# Altium footprint library IC-SMD.PCBLIB: 298 footprints (part 1 of 19)
Each footprint in its own frame and in the unit in brackets; x right, y up, seen from the top. Pads: shape width x height; smd on the part's side, far side on the other; paste and mask are expansions set on the pad; w line width, h text height; cw(c..) or ccw(c..) is an arc to the next point about the centre after c.
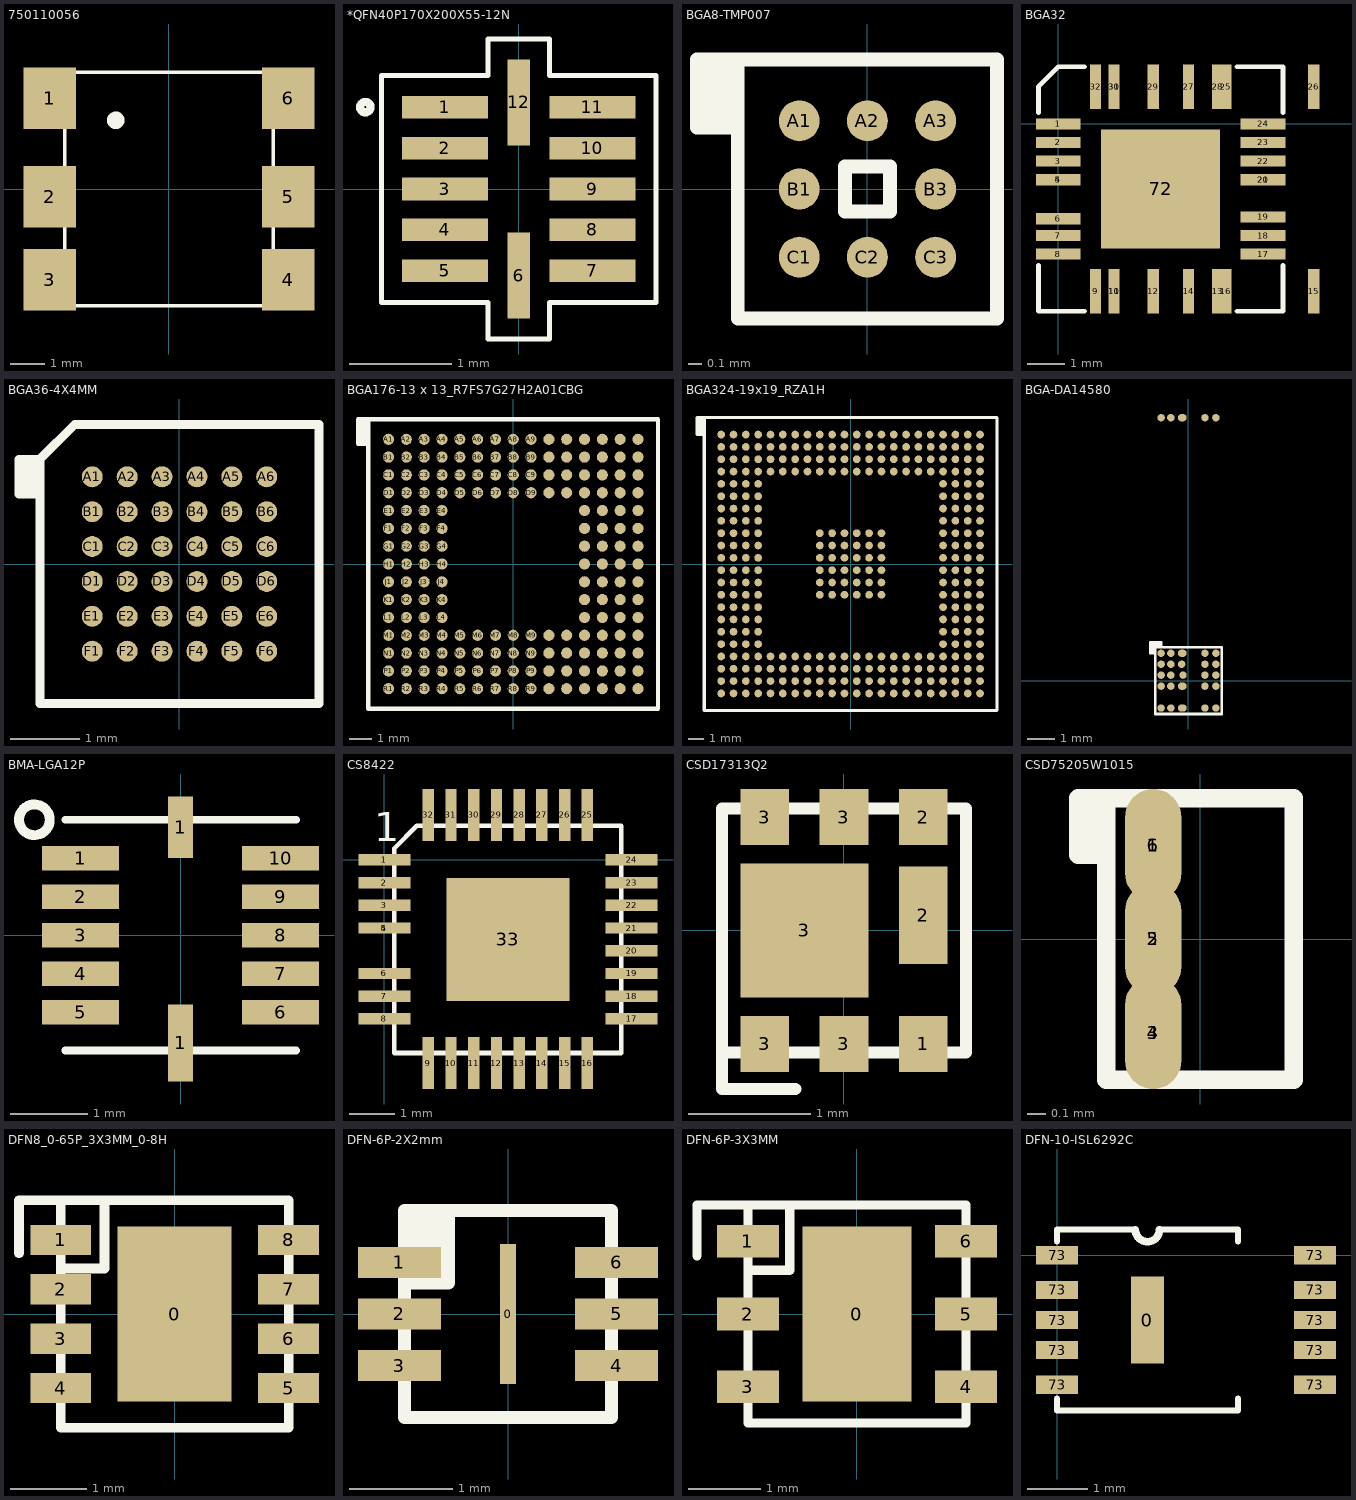
[diagram p0: the footprints below, top view; thin cyan lines are the x and y axes]

## 750110056 [mm] "750110056"
pads (6):
  rect 1.52x1.77 smd: 1(-3.43,2.615) 2(-3.43,-0.225) 3(-3.43,-2.615) 4(3.43,-2.615) 5(3.43,-0.225) 6(3.43,2.615)
TopOverlay:
  circle w0.3: c-1.53,1.976 r0.1
  lines w0.1: -3,-3.365 -3,3.365 3,3.365 3,-3.365 -3,-3.365

## *QFN40P170X200X55-12N [mm] "*QFN40P170X200X55-12N"
pads (12):
  rect 0.84x0.22 smd: 1(-0.72,0.8) 2(-0.72,0.4) 3(-0.72,0) 4(-0.72,-0.4) 5(-0.72,-0.8) 7(0.72,-0.8) 8(0.72,-0.4) 9(0.72,0) 10(0.72,0.4) 11(0.72,0.8)
  rect 0.22x0.84 smd: 6(0,-0.845) 12(0,0.845)
TopOverlay:
  circle w0.08: c-1.499,0.8 r0.051
  lines w0.05: -1.34,-1.11 -0.3,-1.11 -0.3,-1.465 0.3,-1.465 0.3,-1.11 1.34,-1.11 1.34,1.11 0.3,1.11 0.3,1.465 -0.3,1.465 -0.3,1.11 -1.34,1.11 -1.34,-1.11

## BGA8-TMP007 [mm] "BGA8-TMP007"
pads (8):
  round 0.3 smd: A1(-0.5,0.5) A2(0,0.5) A3(0.5,0.5) B1(-0.5,0) B3(0.5,0) C1(-0.5,-0.5) C2(0,-0.5) C3(0.5,-0.5)
TopOverlay:
  rectangle: -1.25,0.45 -0.95,0.95
  lines w0.1: -0.95,0.45 -1.25,0.45 -1.25,0.95 -0.95,0.95 ; -0.95,0.95 0.95,0.95 0.95,-0.95 -0.95,-0.95 -0.95,0.95 ; -0.165,-0.165 0.165,-0.165 0.165,0.165 -0.165,0.165 -0.165,-0.165

## BGA32 [mm]
pads (33):
  rect 1.2x0.3 smd: 1(0,0) 2(0,-0.5) 3(0,-1) 4(0,-1.5) 5(0,-1.5) 6(0,-2.55) 7(0,-3) 8(0,-3.5) 17(5.5,-3.5) 18(5.5,-3) 19(5.5,-2.5) 20(5.5,-1.5) 21(5.5,-1.5) 22(5.5,-1) 23(5.5,-0.5) 24(5.5,0)
  rect 0.3x1.2 smd: 9(1,-4.5) 10(1.5,-4.5) 11(1.5,-4.5) 12(2.55,-4.5) 13(4.28,-4.5) 14(3.5,-4.5) 15(6.86,-4.5) 16(4.5,-4.5) 25(4.5,1) 26(6.86,1) 27(3.5,1) 28(4.28,1) 29(2.55,1) 30(1.5,1) 31(1.5,1) 32(1,1)
  rect 3.2x3.2 smd: 72(2.75,-1.75)
TopOverlay:
  lines w0.128: -0.536,-3.8 -0.536,-5.036 0.7,-5.036 ; -0.536,0.3 -0.536,1 0,1.536 0.7,1.536 ; 4.8,-5.036 6.036,-5.036 6.036,-3.8 ; 4.8,1.536 6.036,1.536 6.036,0.3

## BGA36-4X4MM [mm] "BGA36-4X4MM"
pads (36):
  round 0.3 smd: A1(-1.25,1.25) A2(-0.75,1.25) A3(-0.25,1.25) A4(0.25,1.25) A5(0.75,1.25) A6(1.25,1.25) B1(-1.25,0.75) B2(-0.75,0.75) B3(-0.25,0.75) B4(0.25,0.75) B5(0.75,0.75) B6(1.25,0.75) C1(-1.25,0.25) C2(-0.75,0.25) C3(-0.25,0.25) C4(0.25,0.25) C5(0.75,0.25) C6(1.25,0.25) D1(-1.25,-0.25) D2(-0.75,-0.25) D3(-0.25,-0.25) D4(0.25,-0.25) D5(0.75,-0.25) D6(1.25,-0.25) E1(-1.25,-0.75) E2(-0.75,-0.75) E3(-0.25,-0.75) E4(0.25,-0.75) E5(0.75,-0.75) E6(1.25,-0.75) F1(-1.25,-1.25) F2(-0.75,-1.25) F3(-0.25,-1.25) F4(0.25,-1.25) F5(0.75,-1.25) F6(1.25,-1.25)
TopOverlay:
  rectangle: -2.3,1 -2,1.5
  lines w0.127: -2,1 -2.3,1 -2.3,1.5 -2,1.5 ; -2,1.5 -2,-2 2,-2 2,2 -1.5,2 -2,1.5

## BGA176-13 x 13_R7FS7G27H2A01CBG [mm] "GA176-13 x 13_R7FS7G27H2A01CBG"
pads (176):
  round 0.5 smd mask+0.05: A1(-5.6,5.6) A2(-4.8,5.6) A3(-4,5.6) A4(-3.2,5.6) A5(-2.4,5.6) A6(-1.6,5.6) A7(-0.8,5.6) A8(0,5.6) A9(0.8,5.6) A10(1.6,5.6) A11(2.4,5.6) A12(3.2,5.6) A13(4,5.6) A14(4.8,5.6) A15(5.6,5.6) B1(-5.6,4.8) B2(-4.8,4.8) B3(-4,4.8) B4(-3.2,4.8) B5(-2.4,4.8) B6(-1.6,4.8) B7(-0.8,4.8) B8(0,4.8) B9(0.8,4.8) B10(1.6,4.8) B11(2.4,4.8) B12(3.2,4.8) B13(4,4.8) B14(4.8,4.8) B15(5.6,4.8) C1(-5.6,4) C2(-4.8,4) C3(-4,4) C4(-3.2,4) C5(-2.4,4) C6(-1.6,4) C7(-0.8,4) C8(0,4) C9(0.8,4) C10(1.6,4) C11(2.4,4) C12(3.2,4) C13(4,4) C14(4.8,4) C15(5.6,4) D1(-5.6,3.2) D2(-4.8,3.2) D3(-4,3.2) D4(-3.2,3.2) D5(-2.4,3.2) D6(-1.6,3.2) D7(-0.8,3.2) D8(0,3.2) D9(0.8,3.2) D10(1.6,3.2) D11(2.4,3.2) D12(3.2,3.2) D13(4,3.2) D14(4.8,3.2) D15(5.6,3.2) E1(-5.6,2.4) E2(-4.8,2.4) E3(-4,2.4) E4(-3.2,2.4) E12(3.2,2.4) E13(4,2.4) E14(4.8,2.4) E15(5.6,2.4) F1(-5.6,1.6) F2(-4.8,1.6) F3(-4,1.6) F4(-3.2,1.6) F12(3.2,1.6) F13(4,1.6) F14(4.8,1.6) F15(5.6,1.6) G1(-5.6,0.8) G2(-4.8,0.8) G3(-4,0.8) G4(-3.2,0.8) G12(3.2,0.8) G13(4,0.8) G14(4.8,0.8) G15(5.6,0.8) H1(-5.6,0) H2(-4.8,0) H3(-4,0) H4(-3.2,0) H12(3.2,0) H13(4,0) H14(4.8,0) H15(5.6,0) J1(-5.6,-0.8) J2(-4.8,-0.8) J3(-4,-0.8) J4(-3.2,-0.8) J12(3.2,-0.8) J13(4,-0.8) J14(4.8,-0.8) J15(5.6,-0.8) K1(-5.6,-1.6) K2(-4.8,-1.6) K3(-4,-1.6) K4(-3.2,-1.6) K12(3.2,-1.6) K13(4,-1.6) K14(4.8,-1.6) K15(5.6,-1.6) L1(-5.6,-2.4) L2(-4.8,-2.4) L3(-4,-2.4) L4(-3.2,-2.4) L12(3.2,-2.4) L13(4,-2.4) L14(4.8,-2.4) L15(5.6,-2.4) M1(-5.6,-3.2) M2(-4.8,-3.2) M3(-4,-3.2) M4(-3.2,-3.2) M5(-2.4,-3.2) M6(-1.6,-3.2) M7(-0.8,-3.2) M8(0,-3.2) M9(0.8,-3.2) M10(1.6,-3.2) M11(2.4,-3.2) M12(3.2,-3.2) M13(4,-3.2) M14(4.8,-3.2) M15(5.6,-3.2) N1(-5.6,-4) N2(-4.8,-4) N3(-4,-4) N4(-3.2,-4) N5(-2.4,-4) N6(-1.6,-4) N7(-0.8,-4) N8(0,-4) N9(0.8,-4) N10(1.6,-4) N11(2.4,-4) N12(3.2,-4) N13(4,-4) N14(4.8,-4) N15(5.6,-4) P1(-5.6,-4.8) P2(-4.8,-4.8) P3(-4,-4.8) P4(-3.2,-4.8) P5(-2.4,-4.8) P6(-1.6,-4.8) P7(-0.8,-4.8) P8(0,-4.8) P9(0.8,-4.8) P10(1.6,-4.8) P11(2.4,-4.8) P12(3.2,-4.8) P13(4,-4.8) P14(4.8,-4.8) P15(5.6,-4.8) R1(-5.6,-5.6) R2(-4.8,-5.6) R3(-4,-5.6) R4(-3.2,-5.6) R5(-2.4,-5.6) R6(-1.6,-5.6) R7(-0.8,-5.6) R8(0,-5.6) R9(0.8,-5.6) R10(1.6,-5.6) R11(2.4,-5.6) R12(3.2,-5.6) R13(4,-5.6) R14(4.8,-5.6) R15(5.6,-5.6)
TopOverlay:
  rectangle: -6.8,5.4 -6.5,6.5
  rectangle: -6.97,5.4 -6.67,6.5
  lines w0.2: -6.67,5.4 -6.97,5.4 -6.97,6.5 -6.67,6.5 ; -6.5,5.4 -6.8,5.4 -6.8,6.5 -6.5,6.5 ; -6.5,6.5 -6.5,-6.5 6.5,-6.5 6.5,6.5 -6.5,6.5

## BGA324-19x19_RZA1H [mm] "BGA324-19x19_RZA1H"
pads (324):
  round 0.5 smd mask+0.05: A1(-8.4,8.4) A2(-7.6,8.4) A3(-6.8,8.4) A4(-6,8.4) A5(-5.2,8.4) A6(-4.4,8.4) A7(-3.6,8.4) A8(-2.8,8.4) A9(-2,8.4) A10(-1.2,8.4) A11(-0.4,8.4) A12(0.4,8.4) A13(1.2,8.4) A14(2,8.4) A15(2.8,8.4) A16(3.6,8.4) A17(4.4,8.4) A18(5.2,8.4) A19(6,8.4) A20(6.8,8.4) A21(7.6,8.4) A22(8.4,8.4) AA1(-8.4,-7.6) AA2(-7.6,-7.6) AA3(-6.8,-7.6) AA4(-6,-7.6) AA5(-5.2,-7.6) AA6(-4.4,-7.6) AA7(-3.6,-7.6) AA8(-2.8,-7.6) AA9(-2,-7.6) AA10(-1.2,-7.6) AA11(-0.4,-7.6) AA12(0.4,-7.6) AA13(1.2,-7.6) AA14(2,-7.6) AA15(2.8,-7.6) AA16(3.6,-7.6) AA17(4.4,-7.6) AA18(5.2,-7.6) AA19(6,-7.6) AA20(6.8,-7.6) AA21(7.6,-7.6) AA22(8.4,-7.6) AB1(-8.4,-8.4) AB2(-7.6,-8.4) AB3(-6.8,-8.4) AB4(-6,-8.4) AB5(-5.2,-8.4) AB6(-4.4,-8.4) AB7(-3.6,-8.4) AB8(-2.8,-8.4) AB9(-2,-8.4) AB10(-1.2,-8.4) AB11(-0.4,-8.4) AB12(0.4,-8.4) AB13(1.2,-8.4) AB14(2,-8.4) AB15(2.8,-8.4) AB16(3.6,-8.4) AB17(4.4,-8.4) AB18(5.2,-8.4) AB19(6,-8.4) AB20(6.8,-8.4) AB21(7.6,-8.4) AB22(8.4,-8.4) B1(-8.4,7.6) B2(-7.6,7.6) B3(-6.8,7.6) B4(-6,7.6) B5(-5.2,7.6) B6(-4.4,7.6) B7(-3.6,7.6) B8(-2.8,7.6) B9(-2,7.6) B10(-1.2,7.6) B11(-0.4,7.6) B12(0.4,7.6) B13(1.2,7.6) B14(2,7.6) B15(2.8,7.6) B16(3.6,7.6) B17(4.4,7.6) B18(5.2,7.6) B19(6,7.6) B20(6.8,7.6) B21(7.6,7.6) B22(8.4,7.6) C1(-8.4,6.8) C2(-7.6,6.8) C3(-6.8,6.8) C4(-6,6.8) C5(-5.2,6.8) C6(-4.4,6.8) C7(-3.6,6.8) C8(-2.8,6.8) C9(-2,6.8) C10(-1.2,6.8) C11(-0.4,6.8) C12(0.4,6.8) C13(1.2,6.8) C14(2,6.8) C15(2.8,6.8) C16(3.6,6.8) C17(4.4,6.8) C18(5.2,6.8) C19(6,6.8) C20(6.8,6.8) C21(7.6,6.8) C22(8.4,6.8) D1(-8.4,6) D2(-7.6,6) D3(-6.8,6) D4(-6,6) D5(-5.2,6) D6(-4.4,6) D7(-3.6,6) D8(-2.8,6) D9(-2,6) D10(-1.2,6) D11(-0.4,6) D12(0.4,6) D13(1.2,6) D14(2,6) D15(2.8,6) D16(3.6,6) D17(4.4,6) D18(5.2,6) D19(6,6) D20(6.8,6) D21(7.6,6) D22(8.4,6) E1(-8.4,5.2) E2(-7.6,5.2) E3(-6.8,5.2) E4(-6,5.2) E19(6,5.2) E20(6.8,5.2) E21(7.6,5.2) E22(8.4,5.2) F1(-8.4,4.4) F2(-7.6,4.4) F3(-6.8,4.4) F4(-6,4.4) F19(6,4.4) F20(6.8,4.4) F21(7.6,4.4) F22(8.4,4.4) G1(-8.4,3.6) G2(-7.6,3.6) G3(-6.8,3.6) G4(-6,3.6) G19(6,3.6) G20(6.8,3.6) G21(7.6,3.6) G22(8.4,3.6) H1(-8.4,2.8) H2(-7.6,2.8) H3(-6.8,2.8) H4(-6,2.8) H19(6,2.8) H20(6.8,2.8) H21(7.6,2.8) H22(8.4,2.8) J1(-8.4,2) J2(-7.6,2) J3(-6.8,2) J4(-6,2) J9(-2,2) J10(-1.2,2) J11(-0.4,2) J12(0.4,2) J13(1.2,2) J14(2,2) J19(6,2) J20(6.8,2) J21(7.6,2) J22(8.4,2) K1(-8.4,1.2) K2(-7.6,1.2) K3(-6.8,1.2) K4(-6,1.2) K9(-2,1.2) K10(-1.2,1.2) K11(-0.4,1.2) K12(0.4,1.2) K13(1.2,1.2) K14(2,1.2) K19(6,1.2) K20(6.8,1.2) K21(7.6,1.2) K22(8.4,1.2) L1(-8.4,0.4) L2(-7.6,0.4) L3(-6.8,0.4) L4(-6,0.4) L9(-2,0.4) L10(-1.2,0.4) L11(-0.4,0.4) L12(0.4,0.4) L13(1.2,0.4) L14(2,0.4) L19(6,0.4) L20(6.8,0.4) L21(7.6,0.4) L22(8.4,0.4) M1(-8.4,-0.4) M2(-7.6,-0.4) M3(-6.8,-0.4) M4(-6,-0.4) M9(-2,-0.4) M10(-1.2,-0.4) M11(-0.4,-0.4) M12(0.4,-0.4) M13(1.2,-0.4) M14(2,-0.4) M19(6,-0.4) M20(6.8,-0.4) M21(7.6,-0.4) M22(8.4,-0.4) N1(-8.4,-1.2) N2(-7.6,-1.2) N3(-6.8,-1.2) N4(-6,-1.2) N9(-2,-1.2) N10(-1.2,-1.2) N11(-0.4,-1.2) N12(0.4,-1.2) N13(1.2,-1.2) N14(2,-1.2) N19(6,-1.2) N20(6.8,-1.2) N21(7.6,-1.2) N22(8.4,-1.2) P1(-8.4,-2) P2(-7.6,-2) P3(-6.8,-2) P4(-6,-2) P9(-2,-2) P10(-1.2,-2) P11(-0.4,-2) P12(0.4,-2) P13(1.2,-2) P14(2,-2) P19(6,-2) P20(6.8,-2) P21(7.6,-2) P22(8.4,-2) R1(-8.4,-2.8) R2(-7.6,-2.8) R3(-6.8,-2.8) R4(-6,-2.8) R19(6,-2.8) R20(6.8,-2.8) R21(7.6,-2.8) R22(8.4,-2.8) T1(-8.4,-3.6) T2(-7.6,-3.6) T3(-6.8,-3.6) T4(-6,-3.6) T19(6,-3.6) T20(6.8,-3.6) T21(7.6,-3.6) T22(8.4,-3.6) U1(-8.4,-4.4) U2(-7.6,-4.4) U3(-6.8,-4.4) U4(-6,-4.4) U19(6,-4.4) U20(6.8,-4.4) U21(7.6,-4.4) U22(8.4,-4.4) V1(-8.4,-5.2) V2(-7.6,-5.2) V3(-6.8,-5.2) V4(-6,-5.2) V19(6,-5.2) V20(6.8,-5.2) V21(7.6,-5.2) V22(8.4,-5.2) W1(-8.4,-6) W2(-7.6,-6) W3(-6.8,-6) W4(-6,-6) W5(-5.2,-6) W6(-4.4,-6) W7(-3.6,-6) W8(-2.8,-6) W9(-2,-6) W10(-1.2,-6) W11(-0.4,-6) W12(0.4,-6) W13(1.2,-6) W14(2,-6) W15(2.8,-6) W16(3.6,-6) W17(4.4,-6) W18(5.2,-6) W19(6,-6) W20(6.8,-6) W21(7.6,-6) W22(8.4,-6) Y1(-8.4,-6.8) Y2(-7.6,-6.8) Y3(-6.8,-6.8) Y4(-6,-6.8) Y5(-5.2,-6.8) Y6(-4.4,-6.8) Y7(-3.6,-6.8) Y8(-2.8,-6.8) Y9(-2,-6.8) Y10(-1.2,-6.8) Y11(-0.4,-6.8) Y12(0.4,-6.8) Y13(1.2,-6.8) Y14(2,-6.8) Y15(2.8,-6.8) Y16(3.6,-6.8) Y17(4.4,-6.8) Y18(5.2,-6.8) Y19(6,-6.8) Y20(6.8,-6.8) Y21(7.6,-6.8) Y22(8.4,-6.8)
TopOverlay:
  rectangle: -9.97,8.4 -9.67,9.5
  rectangle: -9.8,8.4 -9.5,9.5
  lines w0.2: -9.67,8.4 -9.97,8.4 -9.97,9.5 -9.67,9.5 ; -9.5,8.4 -9.8,8.4 -9.8,9.5 -9.5,9.5 ; -9.5,9.5 -9.5,-9.5 9.5,-9.5 9.5,9.5 -9.5,9.5

## BGA-DA14580 [mm] "BGA-DA14580"
pads (34):
  round 0.27 smd: A1(-1,1) A2(-0.645,1) A3(-0.2,1) A4(-0.25,1) A5(0.6,1) A6(1,1) B1(-1,0.6) B2(-0.645,0.6) B4(-0.25,0.6) B5(0.6,0.6) B6(1,0.6) C1(-1,0.2) C2(-0.645,0.2) C3(-0.2,0.2) C5(0.6,0.2) C6(1,0.2) D1(-1,-0.2) D2(-0.645,-0.2) D3(-0.2,-0.2) D4(-0.25,-0.2) D5(0.6,-0.2) D6(1,-0.2) E1(-1,9.6) E2(-0.645,9.6) E3(-0.2,9.6) E4(-0.25,9.6) E5(0.6,9.6) E6(1,9.6) F1(-1,-1) F2(-0.645,-1) F3(-0.2,-1) F4(-0.25,-1) F5(0.6,-1) F6(1,-1)
TopOverlay:
  rectangle: -1.4,1 -1.2,1.4
  rectangle: -1.218,1.218 -1,1.4
  lines w0.1: -1.218,1 -1.4,1 -1.4,1.4 -1,1.4 -1,1.218 ; -1.218,-1.218 1.218,-1.218 1.218,1.218 -1.218,1.218 -1.218,-1.218

## BMA-LGA12P [mm] "BMA-LGA12P"
pads (12):
  rect 1x0.32 smd: 1(-1.3,1) 2(-1.3,0.5) 3(-1.3,0) 4(-1.3,-0.5) 5(-1.3,-1) 6(1.3,-1) 7(1.3,-0.5) 8(1.3,0) 9(1.3,0.5) 10(1.3,1)
  rect 0.32x1 smd: 1(0,-1.4)
  rect 0.32x0.8 smd: 1(0,1.4)
TopOverlay:
  circle w0.127: c-1.9,1.5 r0.2
  lines w0.1: -1.5,-1.5 1.5,-1.5 ; -1.5,1.5 1.5,1.5

## CS8422 [mil]
pads (33):
  rect 45x9.84 smd: 1(0,0) 2(0,-19.68) 3(0,-39.37) 4(0,-59.06) 5(0,-59.06) 6(0,-98.43) 7(0,-118.11) 8(0,-137.8) 17(214,-137.8) 18(214,-118.11) 19(214,-98.43) 20(214,-78.74) 21(214,-59.06) 22(214,-39.37) 23(214,-19.68) 24(214,0)
  rect 9.84x45 smd: 9(37.92,-176) 10(57.61,-176) 11(77.3,-176) 12(96.98,-176) 13(116.67,-176) 14(136.35,-176) 15(156.04,-176) 16(175.72,-176) 25(175.72,38.9) 26(156.04,38.9) 27(136.35,38.9) 28(116.67,38.9) 29(96.98,38.9) 30(77.3,38.9) 31(57.61,38.9) 32(37.92,38.9)
  rect 106.5x106.5 smd: 33(106.82,-68.9)
TopOverlay:
  lines w3.94: 8.4,-167.32 205.25,-167.32 205.25,29.53 28.08,29.53 8.4,9.84 8.4,-167.32
  text "1" at -8.7,16.1 h25

## CSD17313Q2 [mm]
pads (8):
  rect 0.4x0.46 smd: 1(0.65,-0.93) 2(0.65,0.93) 3(-0.65,-0.93) 3(-0.65,0.93) 3(0,-0.93) 3(0,0.93)
  rect 0.4x0.8 smd: 2(0.65,0.125)
  rect 1.05x1.1 smd: 3(-0.325,0)
TopOverlay:
  lines w0.1: -0.4,-1.3 -1,-1.3 -1,-1 ; -1,-1 -1,1 1,1 1,-1 -1,-1

## CSD75205W1015 [mm]
pads (6):
  oval 0.3x0.6 smd: 1(-0.25,0.5) 2(-0.25,0) 3(-0.25,-0.5) 4(-0.25,-0.5) 5(-0.25,0) 6(-0.25,0.5)
TopOverlay:
  rectangle: -0.65,0.45 -0.5,0.75
  lines w0.1: -0.55,0.45 -0.65,0.45 -0.65,0.75 -0.5,0.75 ; -0.5,0.75 0.5,0.75 0.5,-0.75 -0.5,-0.75 -0.5,0.75

## DFN8_0-65P_3X3MM_0-8H [mm] "DFN8_0-65P_3X3MM_0-8H"
pads (9):
  rect 1.5x2.3 smd mask+0.05: 0(0,0)
  rect 0.8x0.4 smd mask+0.05: 1(-1.5,0.975) 2(-1.5,0.325) 3(-1.5,-0.325) 4(-1.5,-0.975) 5(1.5,-0.975) 6(1.5,-0.325) 7(1.5,0.325) 8(1.5,0.975)
TopOverlay:
  lines w0.127: -2.05,0.8 -2.05,1.5 -1.5,1.5 ; -1.5,0.6 -0.925,0.6 -0.925,1.5 ; -1.5,1.5 1.5,1.5 1.5,-1.5 -1.5,-1.5 -1.5,1.5

## DFN-6P-2X2mm [mm] "DFN-6P-2X2mm"
pads (7):
  rect 0.15x1.35 smd mask+0.05: 0(0,0)
  rect 0.8x0.3 smd mask+0.05: 1(-1.05,0.5) 2(-1.05,0) 3(-1.05,-0.5) 4(1.05,-0.5) 5(1.05,0) 6(1.05,0.5)
TopOverlay:
  rectangle: -1,0.3 -0.575,1
  lines w0.127: -1,0.3 -0.575,0.3 -0.575,1 ; -1,-1 1,-1 1,1 -1,1 -1,-1

## DFN-6P-3X3MM [mm] "DFN-6P-3x3mm"
pads (7):
  rect 1.5x2.4 smd mask+0.05: 0(0,0)
  rect 0.85x0.45 smd mask+0.05: 1(-1.5,1) 2(-1.5,0) 3(-1.5,-1) 4(1.5,-1) 5(1.5,0) 6(1.5,1)
TopOverlay:
  lines w0.127: -2.2,0.8 -2.2,1.5 -1.5,1.5 ; -1.5,0.6 -0.925,0.6 -0.925,1.5 ; -1.5,1.5 1.5,1.5 1.5,-1.5 -1.5,-1.5 -1.5,1.5

## DFN-10-ISL6292C [mm]
pads (11):
  rect 0.55x1.45 smd: 0(1.5,-1.075)
  rect 0.7x0.3 smd: 73(0,-2.15) 73(0,-1.575) 73(0,-1.075) 73(0,-0.575) 73(0,0) 73(4.28,-2.15) 73(4.28,-1.575) 73(4.28,-1.075) 73(4.28,-0.575) 73(4.28,0)
TopOverlay:
  lines w0.1: 0,-2.375 0,-2.575 3,-2.575 3,-2.375 ; 0,0.225 0,0.425 1.3,0.425 ; 1.7,0.425 3,0.425 3,0.225
  lines w0.127: 1.3,0.425 ccw(c1.5,0.425) 1.7,0.425